# Altium schematic symbol library NAND.SchLib: 3 symbols
Pins are listed as number, name and electrical type; pins without a type are passive.

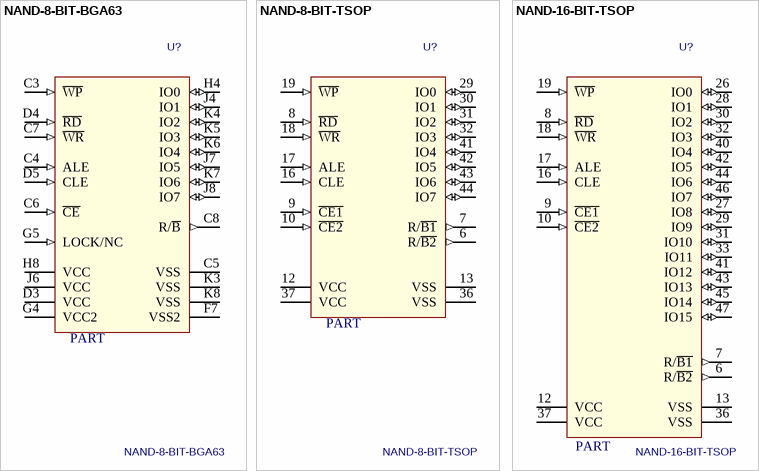
[diagram p0: symbols NAND-8-BIT-BGA63 to NAND-16-BIT-TSOP]

## NAND-8-BIT-BGA63
designator U?  value PART
NAND Flash
pins: C3 ~{WP} (in), C4 ALE (in), C5 VSS (power), C6 ~{CE} (in), C7 ~{WR} (in), C8 R/~{B} (out), D3 VCC (power), D4 ~{RD} (in), D5 CLE (in), F7 VSS2 (power), G4 VCC2 (power), G5 LOCK/NC (in), H4 IO0 (io), H8 VCC (power), J4 IO1 (io), J6 VCC (power), J7 IO5 (io), J8 IO7 (io), K3 VSS (power), K4 IO2 (io), K5 IO3 (io), K6 IO4 (io), K7 IO6 (io), K8 VSS (power)

## NAND-8-BIT-TSOP
designator U?  value PART
NAND Flash
pins: 6 R/~{B2} (out), 7 R/~{B1} (out), 8 ~{RD} (in), 9 ~{CE1} (in), 10 ~{CE2} (in), 12 VCC (power), 13 VSS (power), 16 CLE (in), 17 ALE (in), 18 ~{WR} (in), 19 ~{WP} (in), 29 IO0 (io), 30 IO1 (io), 31 IO2 (io), 32 IO3 (io), 36 VSS (power), 37 VCC (power), 41 IO4 (io), 42 IO5 (io), 43 IO6 (io), 44 IO7 (io)

## NAND-16-BIT-TSOP
designator U?  value PART
NAND Flash
pins: 6 R/~{B2} (out), 7 R/~{B1} (out), 8 ~{RD} (in), 9 ~{CE1} (in), 10 ~{CE2} (in), 12 VCC (power), 13 VSS (power), 16 CLE (in), 17 ALE (in), 18 ~{WR} (in), 19 ~{WP} (in), 26 IO0 (io), 27 IO8 (io), 28 IO1 (io), 29 IO9 (io), 30 IO2 (io), 31 IO10 (io), 32 IO3 (io), 33 IO11 (io), 36 VSS (power), 37 VCC (power), 40 IO4 (io), 41 IO12 (io), 42 IO5 (io), 43 IO13 (io), 44 IO6 (io), 45 IO14 (io), 46 IO7 (io), 47 IO15 (io)